# Altium footprint library Connectors.PcbLib: 16 footprints
Each footprint in its own frame and in the unit in brackets; x right, y up, seen from the top. Pads: shape width x height; smd on the part's side, far side on the other; paste and mask are expansions set on the pad; w line width, h text height; cw(c..) or ccw(c..) is an arc to the next point about the centre after c.
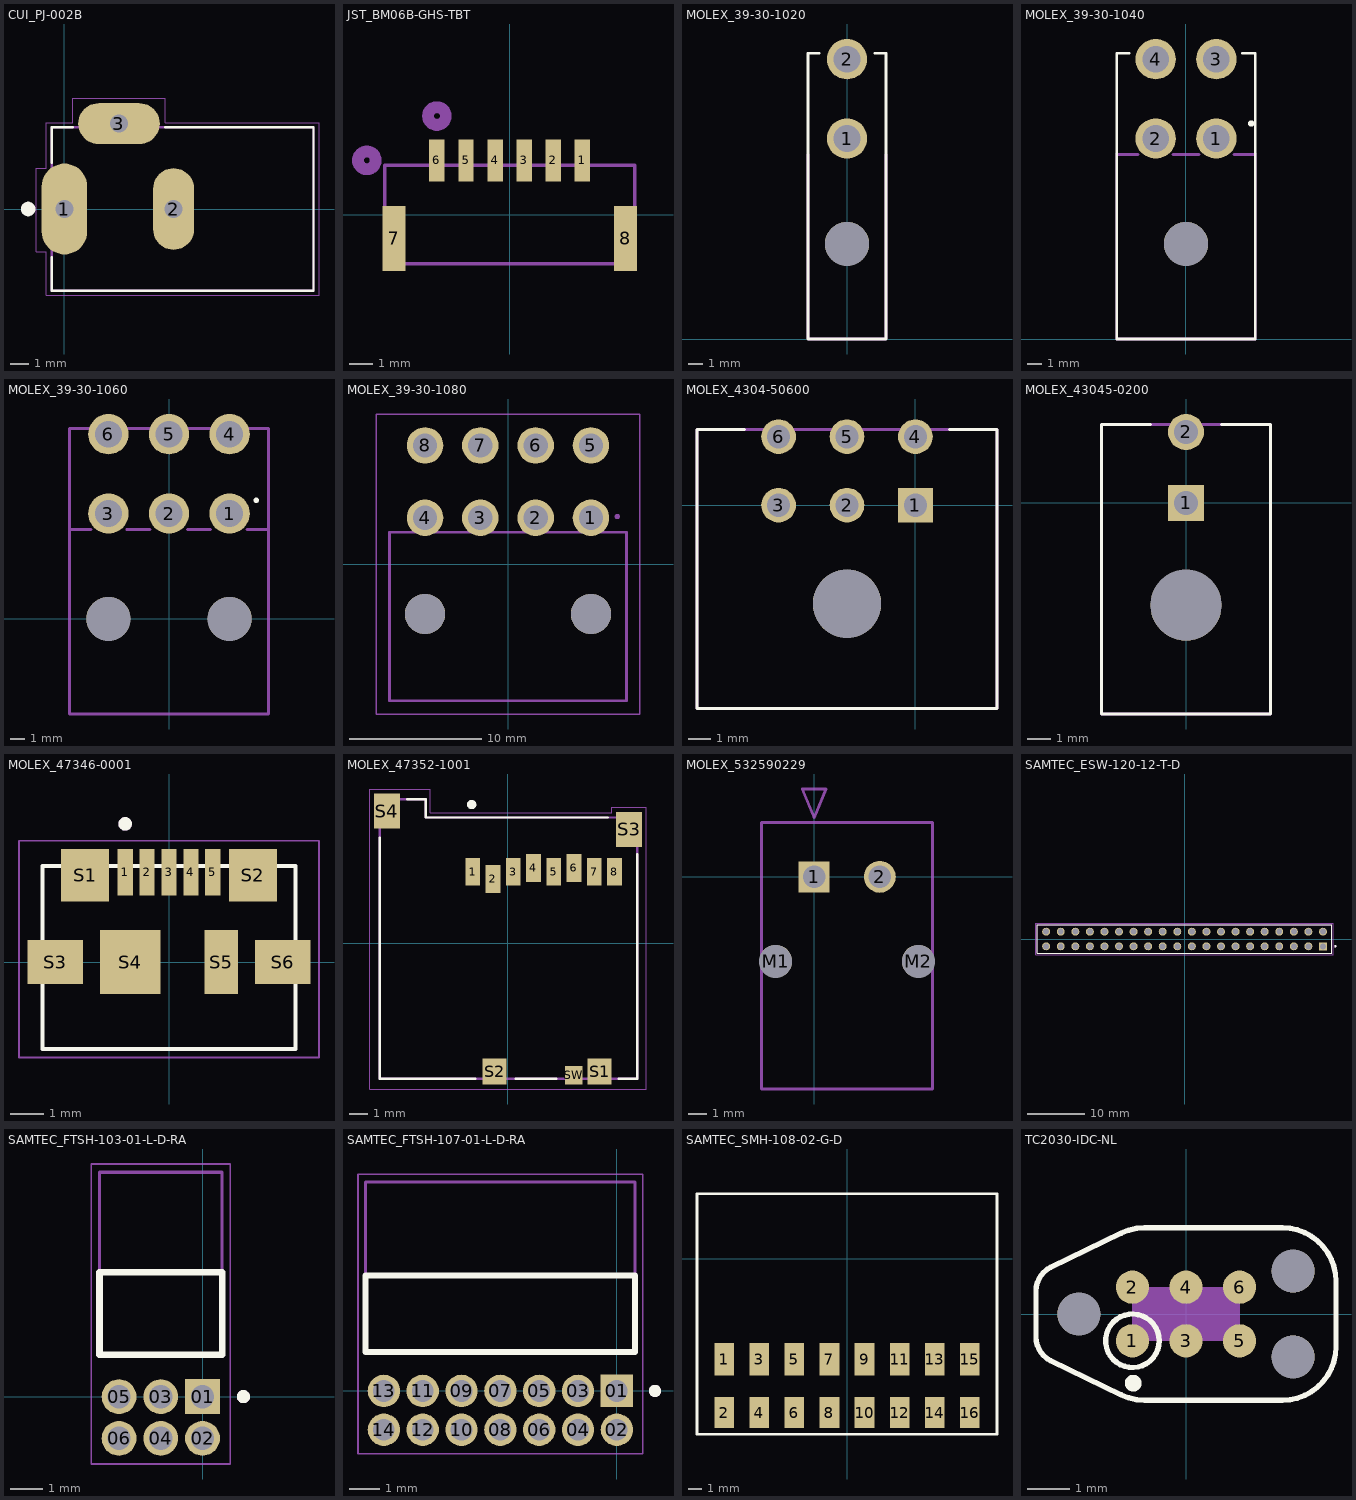
[diagram p0: the footprints below, top view; thin cyan lines are the x and y axes]

## CUI_PJ-002B [mm]
pads (3):
  oval 2.5x5 hole 1 square: 1(0,0)
  oval 2.25x4.5 hole 1 square: 2(6,0)
  oval 4.5x2.25 hole 1 square: 3(3,4.7)
Top Overlay:
  circle w0.4: c-2,0 r0.2
  lines w0.127: -0.7,-2.65 -0.7,-4.5 13.7,-4.5 13.7,4.5 5.55,4.5 ; -0.7,2.55 -0.7,4.5 0.45,4.5
3D Top:
  lines w0.127: -0.7,-4.5 13.7,-4.5 13.7,4.5 -0.7,4.5 -0.7,-4.5
Courtyard Top:
  lines w0.05: -1.55,-2.35 -1.55,2.25 -1,2.25 -1,4.75 0.45,4.75 0.45,6.1 5.55,6.1 5.55,4.75 14,4.75 14,-4.75 -1,-4.75 -1,-2.35 -1.55,-2.35
3D body: height 11, standoff -3.5, extent -0.658,-4.754 13.742,4.646

## JST_BM06B-GHS-TBT [mil]
pads (8):
  rect 26x71 smd: 1(123.03,91.58) 2(73.82,91.58) 3(24.61,91.58) 4(-24.61,91.58) 5(-73.82,91.58) 6(-123.03,91.58)
  rect 39x110 smd: 7(-195.87,-40.31) 8(195.87,-40.31)
Assembly Top:
  lines w6: -211.5,-83.5 211.5,-83.5 211.5,83.5 -211.5,83.5 -211.5,-83.5
  lines w20: -138.03,166.58 ccw(c-123.03,166.58) -108.03,166.58 ccw(c-123.03,166.58) -138.03,166.58
Mechanical 23:
  lines w20: -256.5,91.58 ccw(c-241.5,91.58) -226.5,91.58 ccw(c-241.5,91.58) -256.5,91.58
3D body: height 163.39, standoff 0, extent -209.61,-95 213.61,99.88

## MOLEX_39-30-1020 [mm]
pads (3):
  round 2.8 / inner round 1.524 / far side round 2.8 hole 1.85: 1(0,13.9) 2(0,19.4)
  round 3.05 hole 3.05 unplated: ""(0,6.6)
Top Overlay:
  lines w0.152: -2.7,19.812 -1.93,19.812 ; 1.905,19.812 2.7,19.812
  lines w0.2: -2.7,19.812 -2.7,0 2.7,0 2.7,19.812
Mechanical 22:
  lines w0.2: -2.7,12.8 -2.7,0 2.7,0 2.7,12.8
3D body: height 11.4, standoff -3.6, extent -2.903,-0.076 2.897,19.859

## MOLEX_39-30-1040 [mm]
pads (5):
  round 2.8 / inner round 1.524 / far side round 2.8 hole 1.85: 1(2.1,13.9) 2(-2.1,13.9) 3(2.1,19.4) 4(-2.1,19.4)
  round 3.05 hole 3.05 unplated: ""(0,6.6)
Top Overlay:
  circle w0.254: c4.524,14.934 r0.089
  lines w0.152: -4.775,19.812 -3.912,19.812 ; 3.886,19.812 4.801,19.812
  lines w0.2: -4.8,19.812 -4.8,0 4.8,0 4.8,19.812
Mechanical 22:
  lines w0.2: -3.34,12.8 -4.8,12.8 -4.8,0 4.8,0 4.8,12.8 3.34,12.8 ; -0.9,12.8 0.9,12.8
3D body: height 10.7, standoff -4.3, extent -5.047,-0.123 4.953,19.812

## MOLEX_39-30-1060 [mil]
pads (8):
  round 110.24 / inner round 60 / far side round 110.24 hole 72.83: 1(165.35,287.4) 2(0,287.4) 3(-165.35,287.4) 4(165.35,503.94) 5(0,503.94) 6(-165.35,503.94)
  round 120.08 hole 120.08 unplated: ""(-165.35,0) ""(165.35,0)
Top Overlay:
  circle w7.87: c238.11,323.35 r3.61
Assembly Top:
  lines w7.87: -271.65,-259.84 271.65,-259.84 271.65,520 -271.65,520 -271.65,-259.84
Mechanical 22:
  lines w7.87: -212.6,244.09 -271.65,244.09 -271.65,-259.84 271.65,-259.84 271.65,244.09 212.6,244.09 ; -115.35,244.09 -51.77,244.09 ; 50,244.09 113.58,244.09
3D body: height 434.15, standoff -156.4, extent -274.06,-257.42 285,527.42

## MOLEX_39-30-1080 [mil]
pads (10):
  round 109.25 / inner round 60 / far side round 109.25 hole 72.83: 1(248.03,138.03) 2(82.68,138.03) 3(-82.68,138.03) 4(-248.03,138.03) 5(248.03,354.57) 6(82.68,354.57) 7(-82.68,354.57) 8(-248.03,354.57)
  round 120.08 hole 120.08 unplated: ""(-248.03,-149.37) ""(248.03,-149.37)
Assembly Top:
  lines w3.94: -393.7,-448.58 393.7,-448.58 393.7,448.58 -393.7,448.58 -393.7,-448.58
  lines w7.87: -354.33,-409.21 354.33,-409.21 354.33,94.72 -354.33,94.72 -354.33,-409.21
Mechanical 22:
  lines w3.94: -354.33,94.72 -354.33,-409.21 354.33,-409.21 354.33,94.72
  lines w7.87: 326.77,138.03 ccw(c326.77,141.97) 326.77,145.91 ccw(c326.77,141.97) 326.77,138.03
3D body: height 448.82, standoff -141.73, extent -360.82,-415.71 363.59,369.14

## MOLEX_4304-50600 [mm]
height 8.77
pads (7):
  rect 1.52x1.52 / inner round 1.52 / far side rect 1.52x1.52 hole 1.02 mask+0.076: 1(0,0)
  round 1.52 hole 1.02 mask+0.076: 2(-3,0) 3(-6,0) 4(0,3) 5(-3,3) 6(-6,3)
  round 3 hole 3 unplated mask+0.076: ""(-3,-4.32)
Top Overlay:
  lines w0.127: -7.5,3.32 -9.575,3.32 -9.575,-8.92 3.575,-8.92 3.575,3.32 1.5,3.32
3D Top:
  lines w0.127: -9.575,-8.92 -9.575,3.32 3.575,3.32 3.575,-8.92 -9.575,-8.92
3D body: height 8.83, standoff -3.12, extent -9.645,-8.939 3.505,3.301

## MOLEX_43045-0200 [mm]
height 8.77
pads (3):
  rect 1.52x1.52 hole 1.02 mask+0.076: 1(0,0)
  round 1.52 hole 1.02 mask+0.076: 2(0,3)
  round 3 hole 3 unplated mask+0.076: ""(0,-4.32)
Top Overlay:
  lines w0.127: -1.5,3.32 -3.575,3.32 -3.575,-8.92 3.575,-8.92 3.575,3.32 1.5,3.32
3D Top:
  lines w0.127: -3.575,-8.92 3.575,-8.92 3.575,3.32 -3.575,3.32 -3.575,-8.92
3D body: height 9.4, standoff -2.55, extent -3.556,-8.938 3.594,3.302

## MOLEX_47346-0001 [mm]
pads (11):
  rect 0.45x1.38 smd: 1(-1.3,2.66) 2(-0.65,2.66) 3(0,2.66) 4(0.65,2.66) 5(1.3,2.66)
  rect 1.425x1.55 smd: S1(-2.488,2.575) S2(2.488,2.575)
  rect 1.65x1.3 smd: S3(-3.375,0) S6(3.375,0)
  rect 1.8x1.9 smd: S4(-1.15,0)
  rect 1x1.9 smd: S5(1.55,0)
Top Overlay:
  circle w0.2: c-1.3,4.1 r0.1
  lines w0.127: -3.75,1 -3.75,2.85 ; -3.52,2.85 -3.75,2.85 ; 3.52,2.85 3.75,2.85 ; 3.75,1 3.75,2.85 ; -3.75,2.85 3.75,2.85 ; -3.75,2.85 -3.75,-2.58 3.75,-2.58 3.75,2.85
3D Top:
  circle w0.2: c-1.3,4.1 r0.1
Courtyard Top:
  lines w0.05: -4.45,-2.83 -4.45,3.6 4.45,3.6 4.45,-2.83 -4.45,-2.83
3D body: height 2.7, standoff -0.25, extent -4.18,-2.93 4.18,2.5

## MOLEX_47352-1001 [mm]
pads (13):
  rect 0.8x1.5 smd: 1(-1.915,3.885) 2(-0.815,3.485) 3(0.285,3.885) 4(1.385,4.085) 5(2.485,3.885) 6(3.585,4.085) 7(4.685,3.885) 8(5.785,3.885)
  rect 1.3x1.4 smd: S1(4.975,-6.975) S2(-0.725,-6.975)
  rect 1.4x1.9 smd: S3(6.575,6.175) S4(-6.575,7.175)
  rect 0.95x1 smd: SW(3.585,-7.175)
Top Overlay:
  circle w0.3: c-1.975,7.525 r0.1
  lines w0.127: -6.975,5.725 -6.975,-7.375 -1.775,-7.375 ; -5.475,7.825 -4.475,7.825 -4.475,6.825 5.425,6.825 ; 0.425,-7.375 2.625,-7.375 ; 6.025,-7.375 7.025,-7.375 7.025,4.825
3D Top:
  circle w0.3: c-1.975,3.925 r0.1
  lines w0.127: -6.975,-7.375 -6.975,7.825 -4.475,7.825 -4.475,6.825 7.025,6.825 7.025,-7.375 -6.975,-7.375
Courtyard Top:
  lines w0.05: -7.525,-7.925 -7.525,8.375 -4.225,8.375 -4.225,7.075 5.625,7.075 5.625,7.375 7.525,7.375 7.525,-7.925 -7.525,-7.925
3D body: height 1.95, standoff 0.07, extent -7.075,-7.341 7.025,7.859

## MOLEX_532590229 [mil]
pads (4):
  rect 64.8x64.8 / inner rect 60x60 / far side rect 64.8x64.8 hole 47.24: 1(0,0)
  round 66.93 / inner round 60 / far side round 66.93 hole 47.24: 2(137.8,0)
  round 68.9 / inner round 60 / far side round 68.9 hole 68.9: M1(-80.71,-177.17) M2(218.5,-177.17)
Assembly Top:
  lines w6: -110.24,-444.88 -110.24,114.17 248.03,114.17 248.03,-444.88 -110.24,-444.88 ; -25,184.17 0,124.17 25,184.17 -25,184.17
Mechanical 22:
  lines w6: -110.24,-213.67 -110.24,-444.88 248.03,-444.88 248.03,-213.67 ; -110.24,-140.67 -110.24,114.17 248.03,114.17 248.03,-140.67 ; -25,184.17 0,124.17 25,184.17 -25,184.17
3D body: height 338.58, standoff -135.83, extent -110.13,-445 248.13,114.05

## SAMTEC_ESW-120-12-T-D [mm]
pads (40):
  rect 1.39x1.39 hole 1.04: 01(24.13,-1.27)
  round 1.39 hole 1.04: 02(24.13,1.27) 03(21.59,-1.27) 04(21.59,1.27) 05(19.05,-1.27) 06(19.05,1.27) 07(16.51,-1.27) 08(16.51,1.27) 09(13.97,-1.27) 10(13.97,1.27) 11(11.43,-1.27) 12(11.43,1.27) 13(8.89,-1.27) 14(8.89,1.27) 15(6.35,-1.27) 16(6.35,1.27) 17(3.81,-1.27) 18(3.81,1.27) 19(1.27,-1.27) 20(1.27,1.27) 21(-1.27,-1.27) 22(-1.27,1.27) 23(-3.81,-1.27) 24(-3.81,1.27) 25(-6.35,-1.27) 26(-6.35,1.27) 27(-8.89,-1.27) 28(-8.89,1.27) 29(-11.43,-1.27) 30(-11.43,1.27) 31(-13.97,-1.27) 32(-13.97,1.27) 33(-16.51,-1.27) 34(-16.51,1.27) 35(-19.05,-1.27) 36(-19.05,1.27) 37(-21.59,-1.27) 38(-21.59,1.27) 39(-24.13,-1.27) 40(-24.13,1.27)
Top Overlay:
  circle w0.2: c26.305,-1.27 r0.1
  lines w0.2: -25.655,-2.475 25.655,-2.475 25.655,2.475 -25.655,2.475 -25.655,-2.475
3D Top:
  circle w0.2: c26.305,-1.27 r0.1
  lines w0.1: -25.655,-2.475 -25.655,2.475 ; -25.655,-2.475 25.655,-2.475 ; -25.655,-2.475 -25.655,2.475 ; -25.655,2.475 25.655,2.475 ; -25.655,2.475 25.655,2.475 ; 25.655,-2.475 25.655,2.475 ; 25.655,-2.475 25.655,2.475
Courtyard Top:
  lines w0.05: -25.905,-2.725 25.905,-2.725 25.905,2.725 -25.905,2.725 -25.905,-2.725
3D body: height 8.51, standoff -4.83, extent -25.655,-2.605 25.653,2.475

## SAMTEC_FTSH-103-01-L-D-RA [mm]
pads (6):
  rect 1.06x1.06 hole 0.71: 01(0,0)
  round 1.06 hole 0.71: 02(0,-1.27) 03(-1.27,0) 04(-1.27,-1.27) 05(-2.54,0) 06(-2.54,-1.27)
Top Overlay:
  circle w0.2: c1.245,0 r0.1
  lines w0.2: -3.135,1.27 0.595,1.27 0.595,3.78 -3.135,3.78 -3.135,1.27
3D Top:
  circle w0.2: c1.245,0 r0.1
  lines w0.1: -3.135,1.27 -3.135,6.83 0.595,6.83 0.595,1.27 ; -3.135,1.27 0.595,1.27 ; -3.135,1.27 -3.135,3.78 0.595,3.78 0.595,1.27
Courtyard Top:
  lines w0.05: -3.385,-2.05 0.845,-2.05 0.845,7.08 -3.385,7.08 -3.385,-2.05
3D body: height 3.71, standoff -2, extent -3.2,-1.499 0.61,6.807

## SAMTEC_FTSH-107-01-L-D-RA [mm]
pads (14):
  rect 1.06x1.06 hole 0.71: 01(0,0)
  round 1.06 hole 0.71: 02(0,-1.27) 03(-1.27,0) 04(-1.27,-1.27) 05(-2.54,0) 06(-2.54,-1.27) 07(-3.81,0) 08(-3.81,-1.27) 09(-5.08,0) 10(-5.08,-1.27) 11(-6.35,0) 12(-6.35,-1.27) 13(-7.62,0) 14(-7.62,-1.27)
Top Overlay:
  circle w0.2: c1.245,0 r0.1
  lines w0.2: -8.215,1.27 -8.215,3.78 0.595,3.78 0.595,1.27 -8.215,1.27
3D Top:
  circle w0.2: c1.245,0 r0.1
  lines w0.1: -8.215,1.27 -8.215,3.78 0.595,3.78 0.595,1.27 ; -8.215,1.27 0.595,1.27 ; -8.215,1.27 -8.215,6.83 0.595,6.83 0.595,1.27
Courtyard Top:
  lines w0.05: -8.465,-2.05 -8.465,7.08 0.845,7.08 0.845,-2.05 -8.465,-2.05
3D body: height 3.71, standoff -2, extent -8.23,-1.448 0.66,6.858

## SAMTEC_SMH-108-02-G-D [mm]
pads (16):
  rect 1.42x2.34 smd mask+0: 1(-8.89,-7.277) 3(-6.35,-7.277) 5(-3.81,-7.277) 7(-1.27,-7.277) 9(1.27,-7.277) 11(3.81,-7.277) 13(6.35,-7.277) 15(8.89,-7.277)
  rect 1.42x2.24 smd mask+0: 2(-8.89,-11.138) 4(-6.35,-11.138) 6(-3.81,-11.138) 8(-1.27,-11.138) 10(1.27,-11.138) 12(3.81,-11.138) 14(6.35,-11.138) 16(8.89,-11.138)
Top Overlay:
  lines w0.2: -10.864,-12.709 10.864,-12.709 10.864,4.705 -10.864,4.705 -10.864,-12.709
Top Paste:
  region: 9.6,-12.258 8.18,-12.258 8.18,-10.018 9.6,-10.018
  region: 9.6,-8.447 8.18,-8.447 8.18,-6.107 9.6,-6.107
  region: 7.06,-12.258 5.64,-12.258 5.64,-10.018 7.06,-10.018
  region: 7.06,-8.447 5.64,-8.447 5.64,-6.107 7.06,-6.107
  region: 4.52,-12.258 3.1,-12.258 3.1,-10.018 4.52,-10.018
  region: 4.52,-8.447 3.1,-8.447 3.1,-6.107 4.52,-6.107
  region: 1.98,-12.258 0.56,-12.258 0.56,-10.018 1.98,-10.018
  region: 1.98,-8.447 0.56,-8.447 0.56,-6.107 1.98,-6.107
  region: -0.56,-12.258 -1.98,-12.258 -1.98,-10.018 -0.56,-10.018
  region: -0.56,-8.447 -1.98,-8.447 -1.98,-6.107 -0.56,-6.107
  region: -3.1,-12.258 -4.52,-12.258 -4.52,-10.018 -3.1,-10.018
  region: -3.1,-8.447 -4.52,-8.447 -4.52,-6.107 -3.1,-6.107
  region: -5.64,-12.258 -7.06,-12.258 -7.06,-10.018 -5.64,-10.018
  region: -5.64,-8.447 -7.06,-8.447 -7.06,-6.107 -5.64,-6.107
  region: -8.18,-12.258 -9.6,-12.258 -9.6,-10.018 -8.18,-10.018
  region: -8.18,-8.447 -9.6,-8.447 -9.6,-6.107 -8.18,-6.107
Top Solder:
  region: 9.651,-12.309 8.129,-12.309 8.129,-9.967 9.651,-9.967
  region: 9.651,-8.498 8.129,-8.498 8.129,-6.056 9.651,-6.056
  region: 7.111,-12.309 5.589,-12.309 5.589,-9.967 7.111,-9.967
  region: 7.111,-8.498 5.589,-8.498 5.589,-6.056 7.111,-6.056
  region: 4.571,-12.309 3.049,-12.309 3.049,-9.967 4.571,-9.967
  region: 4.571,-8.498 3.049,-8.498 3.049,-6.056 4.571,-6.056
  region: 2.031,-12.309 0.509,-12.309 0.509,-9.967 2.031,-9.967
  region: 2.031,-8.498 0.509,-8.498 0.509,-6.056 2.031,-6.056
  region: -0.509,-12.309 -2.031,-12.309 -2.031,-9.967 -0.509,-9.967
  region: -0.509,-8.498 -2.031,-8.498 -2.031,-6.056 -0.509,-6.056
  region: -3.049,-12.309 -4.571,-12.309 -4.571,-9.967 -3.049,-9.967
  region: -3.049,-8.498 -4.571,-8.498 -4.571,-6.056 -3.049,-6.056
  region: -5.589,-12.309 -7.111,-12.309 -7.111,-9.967 -5.589,-9.967
  region: -5.589,-8.498 -7.111,-8.498 -7.111,-6.056 -5.589,-6.056
  region: -8.129,-12.309 -9.651,-12.309 -9.651,-9.967 -8.129,-9.967
  region: -8.129,-8.498 -9.651,-8.498 -9.651,-6.056 -8.129,-6.056
3D Top:
  lines w0.1: -10.864,-12.709 10.864,-12.709 10.864,4.705 -10.864,4.705 -10.864,-12.709
3D body: height 4.98, standoff 0.02, extent -10.262,-11.684 10.566,4.064

## TC2030-IDC-NL [mil]
pads (9):
  round 31 smd paste-39.37: 1(-50,-25) 2(-50,25) 3(0,-25) 4(0,25) 5(50,-25) 6(50,25)
  round 40 hole 40 unplated: ""(-100,0) ""(100,-40) ""(100,40)
Top Overlay:
  circle w5: c-50,-25 r25
  circle w7.87: c-49.18,-64.58 r3.94
  lines w5: -125.96,-43.79 cw(c-115,-21.32) -140,-21.32 -140,21.32 cw(c-115,21.32) -125.96,43.79 ; -125.88,-43.83 -60.31,-75.52 ; -125.88,43.83 -60.31,75.52 ; -60.47,-75.44 ccw(c-38.55,-30.5) -38.55,-80.5 90,-80.5 ccw(c90,-30.5) 140,-30.5 140,30.5 ccw(c90,30.5) 90,80.5 -38.55,80.5 ccw(c-38.55,30.5) -60.47,75.44
Courtyard Top:
  region: 50,-25 -50,-25 -50,25 50,25